# Altium footprint library MCP16311.PcbLib: 4 footprints
Each footprint in its own frame and in the unit in brackets; x right, y up, seen from the top. Pads: shape width x height; smd on the part's side, far side on the other; paste and mask are expansions set on the pad; w line width, h text height; cw(c..) or ccw(c..) is an arc to the next point about the centre after c.
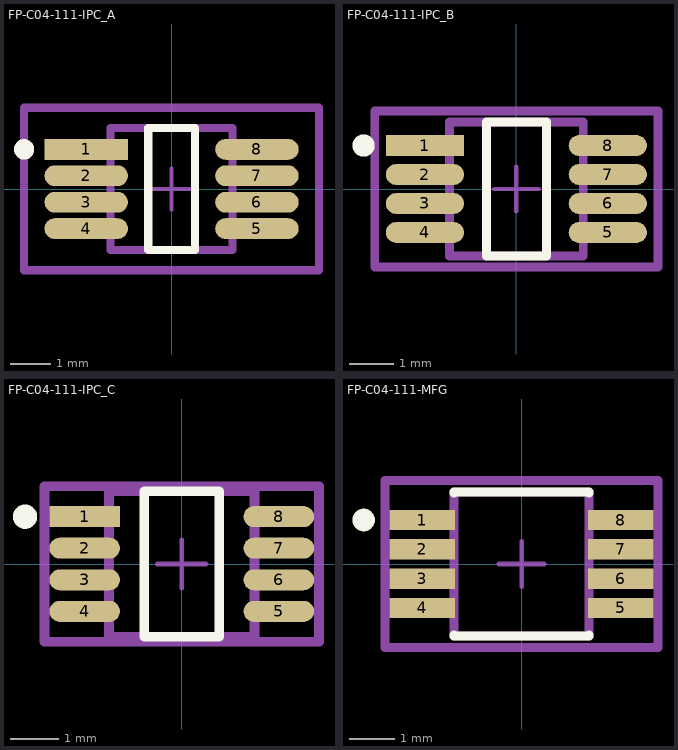
[diagram p0: the footprints below, top view; thin cyan lines are the x and y axes]

## FP-C04-111-IPC_A [mm]
pads (8):
  rect 2.054x0.513 smd paste+0 mask+0: 1(-2.1,0.975)
  rrect100% 2.054x0.513 smd paste+0 mask+0: 2(-2.1,0.325) 3(-2.1,-0.325) 4(-2.1,-0.975) 5(2.1,-0.975) 6(2.1,-0.325) 7(2.1,0.325) 8(2.1,0.975)
Top Overlay:
  circle w0.25: c-3.627,0.975 r0.125
  lines w0.2: -0.573,-1.5 0.573,-1.5 0.573,1.5 -0.573,1.5 -0.573,-1.5
Top Assembly:
  lines w0.2: -3.627,-2 3.627,-2 3.627,2 -3.627,2 -3.627,-2
  text ".Designator" at 0,0.188 h1
Top 3D Body:
  lines w0.2: -1.5,-1.5 1.5,-1.5 1.5,1.5 -1.5,1.5 -1.5,-1.5
Top Courtyard:
  lines w0.2: -3.627,-2 3.627,-2 3.627,2 -3.627,2 -3.627,-2
Top Component Center:
  lines w0.1: -0.5,0 0.5,0 ; 0,-0.5 0,0.5

## FP-C04-111-IPC_B [mm]
pads (8):
  rect 1.754x0.473 smd paste+0 mask+0: 1(-2.05,0.975)
  rrect100% 1.754x0.473 smd paste+0 mask+0: 2(-2.05,0.325) 3(-2.05,-0.325) 4(-2.05,-0.975) 5(2.05,-0.975) 6(2.05,-0.325) 7(2.05,0.325) 8(2.05,0.975)
Top Overlay:
  circle w0.25: c-3.427,0.975 r0.125
  lines w0.2: -0.673,-1.5 0.673,-1.5 0.673,1.5 -0.673,1.5 -0.673,-1.5
Top Assembly:
  lines w0.2: -3.177,-1.75 3.177,-1.75 3.177,1.75 -3.177,1.75 -3.177,-1.75
  text ".Designator" at 0,0.188 h1
Top 3D Body:
  lines w0.2: -1.5,-1.5 1.5,-1.5 1.5,1.5 -1.5,1.5 -1.5,-1.5
Top Courtyard:
  lines w0.2: -3.177,-1.75 3.177,-1.75 3.177,1.75 -3.177,1.75 -3.177,-1.75
Top Component Center:
  lines w0.1: -0.5,0 0.5,0 ; 0,-0.5 0,0.5

## FP-C04-111-IPC_C [mm]
pads (8):
  rect 1.454x0.433 smd paste+0 mask+0: 1(-2,0.975)
  rrect100% 1.454x0.433 smd paste+0 mask+0: 2(-2,0.325) 3(-2,-0.325) 4(-2,-0.975) 5(2,-0.975) 6(2,-0.325) 7(2,0.325) 8(2,0.975)
Top Overlay:
  circle w0.25: c-3.227,0.975 r0.125
  lines w0.2: -0.773,-1.5 0.773,-1.5 0.773,1.5 -0.773,1.5 -0.773,-1.5
Top Assembly:
  lines w0.2: -2.827,-1.6 2.827,-1.6 2.827,1.6 -2.827,1.6 -2.827,-1.6
  text ".Designator" at 0,0.188 h1
Top 3D Body:
  lines w0.2: -1.5,-1.5 1.5,-1.5 1.5,1.5 -1.5,1.5 -1.5,-1.5
Top Courtyard:
  lines w0.2: -2.827,-1.6 2.827,-1.6 2.827,1.6 -2.827,1.6 -2.827,-1.6
Top Component Center:
  lines w0.1: -0.5,0 0.5,0 ; 0,-0.5 0,0.5

## FP-C04-111-MFG [mm]
pads (8):
  rect 1.45x0.45 smd paste+0 mask+0: 1(-2.2,0.975) 2(-2.2,0.325) 3(-2.2,-0.325) 4(-2.2,-0.975) 5(2.2,-0.975) 6(2.2,-0.325) 7(2.2,0.325) 8(2.2,0.975)
Top Overlay:
  circle w0.25: c-3.5,0.975 r0.125
  lines w0.2: -1.5,-1.575 -1.5,-1.6 1.5,-1.6 1.5,-1.575 ; -1.5,1.575 -1.5,1.6 1.5,1.6 1.5,1.575
Top Assembly:
  lines w0.2: -3.025,-1.85 3.025,-1.85 3.025,1.85 -3.025,1.85 -3.025,-1.85
  text ".Designator" at 0,0.188 h1
Top 3D Body:
  lines w0.2: -1.5,-1.6 1.5,-1.6 1.5,1.6 -1.5,1.6 -1.5,-1.6
Top Courtyard:
  lines w0.2: -3.025,-1.85 3.025,-1.85 3.025,1.85 -3.025,1.85 -3.025,-1.85
Top Component Center:
  lines w0.1: -0.5,0 0.5,0 ; 0,-0.5 0,0.5
3D body "IC_Microchip_MCP9808T-E-MS_eec.STEP": height 0.25, standoff 0, extent -3.025,-1.85 3.025,1.85